# EAGLE library part MPL115A1 (library MPL115A1)
MPL115A1 Description: Now mounted on a breakout board, the MPL115A1 is a digital barometer that uses MEMs technology to give accurate pressure measurements between 50kPa and 115kPa. Average current consumption is 10µA at one measurement per second. The sensor outputs both temperature and pressure readings on the SPI bus. Features: Wide supply voltage range -40°C to 105°C maximum temperature range Low power consumption kPa accuracy
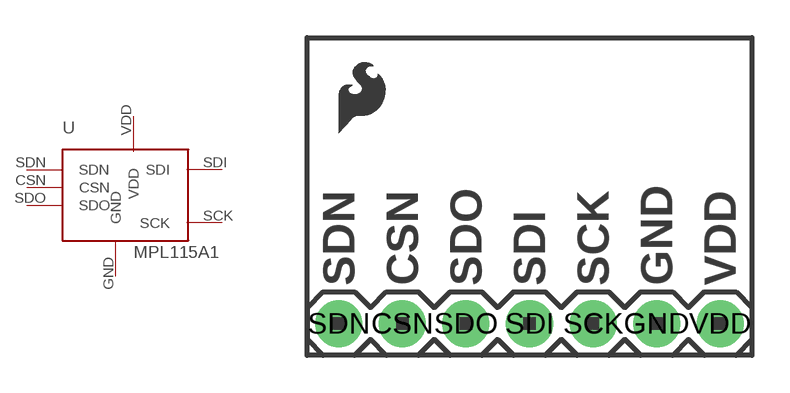
[diagram p0: symbol with the pads of MPL115A1; footprint MPL115A1]

Designator prefix -

## MPL115A1  [MPL115A1]
CSN  CSN
GND  GND
SCK  SCK
SDI  SDI
SDN  SDN
SDO  SDO
VDD  VDD

## Footprint MPL115A1 (pad centres in mm)
Package generated by make-group2pac.ulp from: C:/Users/alfre/Documents/eagle/MPL115A1/MPL115A1-Breakout-v12.brd at: 30/08/2016 03:35 p. m.
drill 1.016 pad 1.88: CSN 3.81,1.27; GND 13.97,1.27; SCK 11.43,1.27; SDI 8.89,1.27; SDN 1.27,1.27; SDO 6.35,1.27; VDD 16.51,1.27